# Altium schematic symbol library QUTMS_LogicLibrary.SchLib: 2 symbols
Pins are listed as number, name and electrical type; pins without a type are passive.

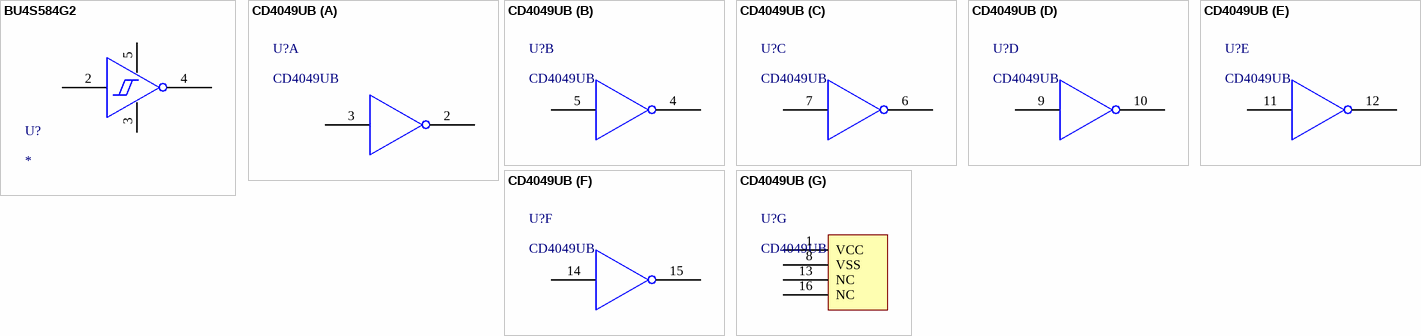
[diagram p0: symbols BU4S584G2 to CD4049UB]

## BU4S584G2
designator U?
IC INVERTER SCHMITT 1CH 5SSOP
footprint SSOP5
pins: 2 A, 3 VSS, 4 Y, 5 VDD

## CD4049UB
designator U?
footprint CD4049UB
part A pins: 2 G, 3 A
part B pins: 4 H, 5 B
part C pins: 6 I, 7 C
part D pins: 9 D, 10 J
part E pins: 11 E, 12 K
part F pins: 14 F, 15 L
part G pins: 1 VCC, 8 VSS, 13 NC, 16 NC